# EAGLE library part GSB1C41110SSHR (library GSB1C41110SSHR)
USB2.0, Type C, Top mount, Center Height 1.63mm, Single Row Surface Mount Source: Datasheet <https://cdn.amphenol-cs.com/media/wysiwyg/files/drawing/gsb1c41x10sshr-ax1.pdf>
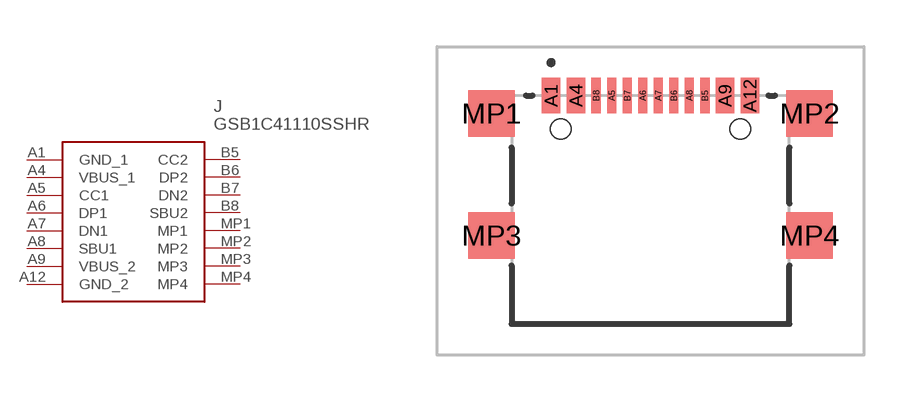
[diagram p0: symbol with the pads of GSB1C41110SSHR; footprint GSB1C41110SSHR]

Designator prefix J

## GSB1C41110SSHR (Description: USB2.0, Type C, Top mount, Center Height 1.63mm, Single Row Surface Mount; Height: 3.41mm; Manufacturer_Name: Amphenol Communications Solutions; Manufacturer_Part_Number: GSB1C41110SSHR)  [GSB1C41110SSHR]
A1  GND_1
A4  VBUS_1
A5  CC1
A6  DP1
A7  DN1
A8  SBU1
A9  VBUS_2
A12  GND_2
B5  CC2
B6  DP2
B7  DN2
B8  SBU2
MP1  MP1
MP2  MP2
MP3  MP3
MP4  MP4

## Footprint GSB1C41110SSHR (pad centres in mm)
GSB1C41110SSHR-1
smd 0.6 x 1.15: A1 -3.2,3.39; A4 -2.4,3.39; A9 2.4,3.39; A12 3.2,3.39
smd 0.3 x 1.15: A5 -1.25,3.39; A6 -0.25,3.39; A7 0.25,3.39; A8 1.25,3.39; B5 1.75,3.39; B6 0.75,3.39; B7 -0.75,3.39; B8 -1.75,3.39
smd 1.5 x 1.5: MP1 -5.12,2.815; MP2 5.12,2.815; MP3 -5.12,-1.115; MP4 5.12,-1.115
hole 0.65 at -2.89,2.315
hole 0.65 at 2.89,2.315